# Altium schematic symbol library HX710.SchLib: 1 symbol
Pins are listed as number, name and electrical type; pins without a type are passive.

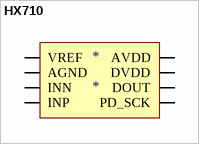
[diagram p0: symbol HX710]

## HX710
designator *
24 bit ADC
footprint HX710 (24bit ADC)
pins: 1 VREF, 2 AGND, 3 INN, 4 INP, 5 PD_SCK, 6 DOUT, 7 DVDD, 8 AVDD